# Altium integrated library 10uF.IntLib: 1 symbol
Pins are listed as number, name and electrical type; pins without a type are passive.

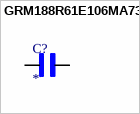
[diagram p0: symbol GRM188R61E106MA73J]

## GRM188R61E106MA73J
designator C?
SMD Capacitor X5R(EIA) with Capacitance: 10uF Tol. 20%. Rated Voltage: 25Vdc; MF: Murata; MP: GRM188R61E106MA73J; SnapEDA_Link: https://www.snapeda.com/parts/GRM188R61E106MA73J/Murata/view-part/?ref=snap; Package: 1608 Murata; Value: *; Check_prices: https://www.snapeda.com/parts/GRM188R61E106MA73J/Murata/view-part/?ref=eda
footprint CAPC1608X100N
pins: 1, 2